# EAGLE library part 623310235521 (library Wurth_Elektronik_Electromechanic_Board_to_Board_Connectors_rev16a)
WR-PHD 1.27mm Dual SMT Pin Header H=1.80mm, 10 Pins=>Code : Con_BTB_PHD_1.27_2_623310235521 <http://katalog.we-online.de/media/thumbs2/eican/thb_Con_BTB_PHD_1.27_2_6233xx235521_pf2.jpg> Details see: http://katalog.we-online.de/en/em/623_3xx_235_521 Created 2014-06-04, Karrer Zheng 2014 (C) Würth Elektronik
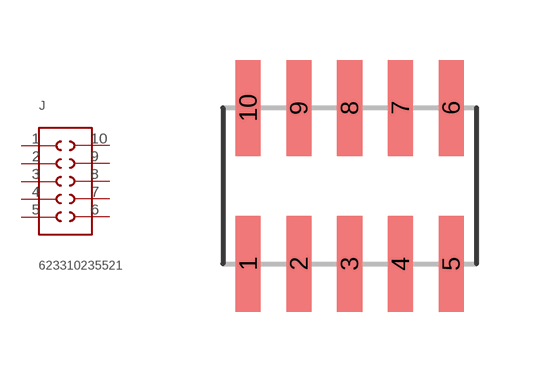
[diagram p300: symbol with the pads of 623310235521; footprint 623310235521]

Designator prefix J

## 623310235521  [623310235521]
1  1  pas
2  2  pas
3  3  pas
4  4  pas
5  5  pas
6  6  pas
7  7  pas
8  8  pas
9  9  pas
10  10  pas

## Footprint 623310235521 (pad centres in mm)
WR-PHD 1.27mm Dual SMT Pin Header H=1.80mm, 10 Pins
smd 0.63 x 2.4: 1 -2.54,-1.95; 2 -1.27,-1.95; 3 0,-1.95; 4 1.27,-1.95; 5 2.54,-1.95; 6 2.54,1.95; 7 1.27,1.95; 8 0,1.95; 9 -1.27,1.95; 10 -2.54,1.95